# EAGLE library part LS302 (library wheat)
dual NPN LS302 TO71
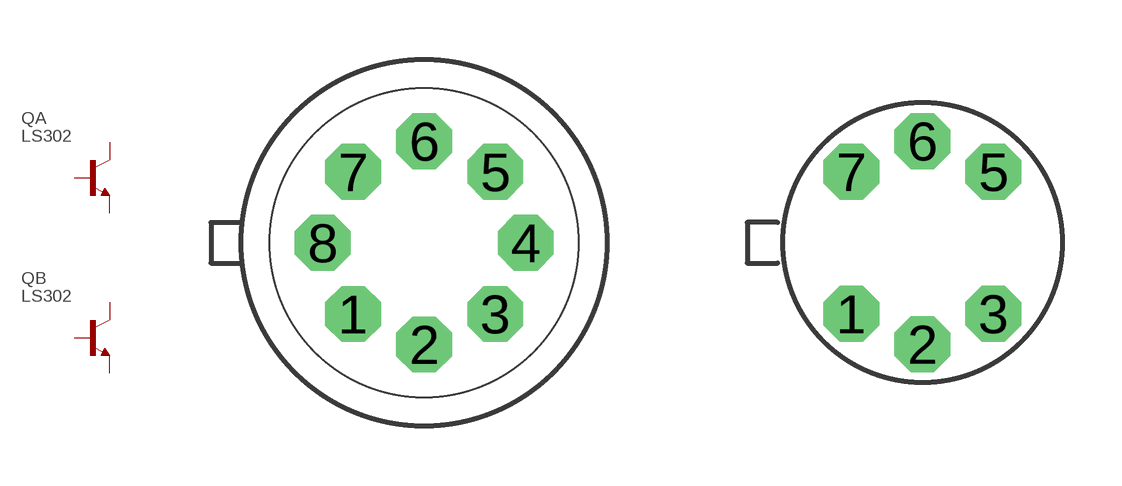
[diagram p89: symbol with the pads of TO99; footprints TO99, TO71]

Designator prefix Q; gates A=NPN1 B=NPN1

## LS302_99  [TO99]
1  A:C1  pas
2  A:B  pas
3  A:E  pas
5  B:C1  pas
6  B:B  pas
7  B:E  pas

## LS302_71  [TO71]
1  A:C1  pas
2  A:B  pas
3  A:E  pas
5  B:E  pas
6  B:B  pas
7  B:C1  pas

## Footprint TO99 (pad centres in mm)
drill 0.813 pad 1.397 octagon: 1 -1.778,-1.778; 2 0,-2.54; 3 1.778,-1.778; 4 2.54,0; 5 1.778,1.778; 6 0,2.54; 7 -1.778,1.778; 8 -2.54,0

## Footprint TO71 (pad centres in mm)
drill 0.813 pad 1.397 octagon: 1 -1.778,-1.778; 2 0,-2.54; 3 1.778,-1.778; 5 1.778,1.778; 6 0,2.54; 7 -1.778,1.778